# Altium integrated library TI Power Management PCMCIA and USB.IntLib: 328 symbols (part 2 of 14)
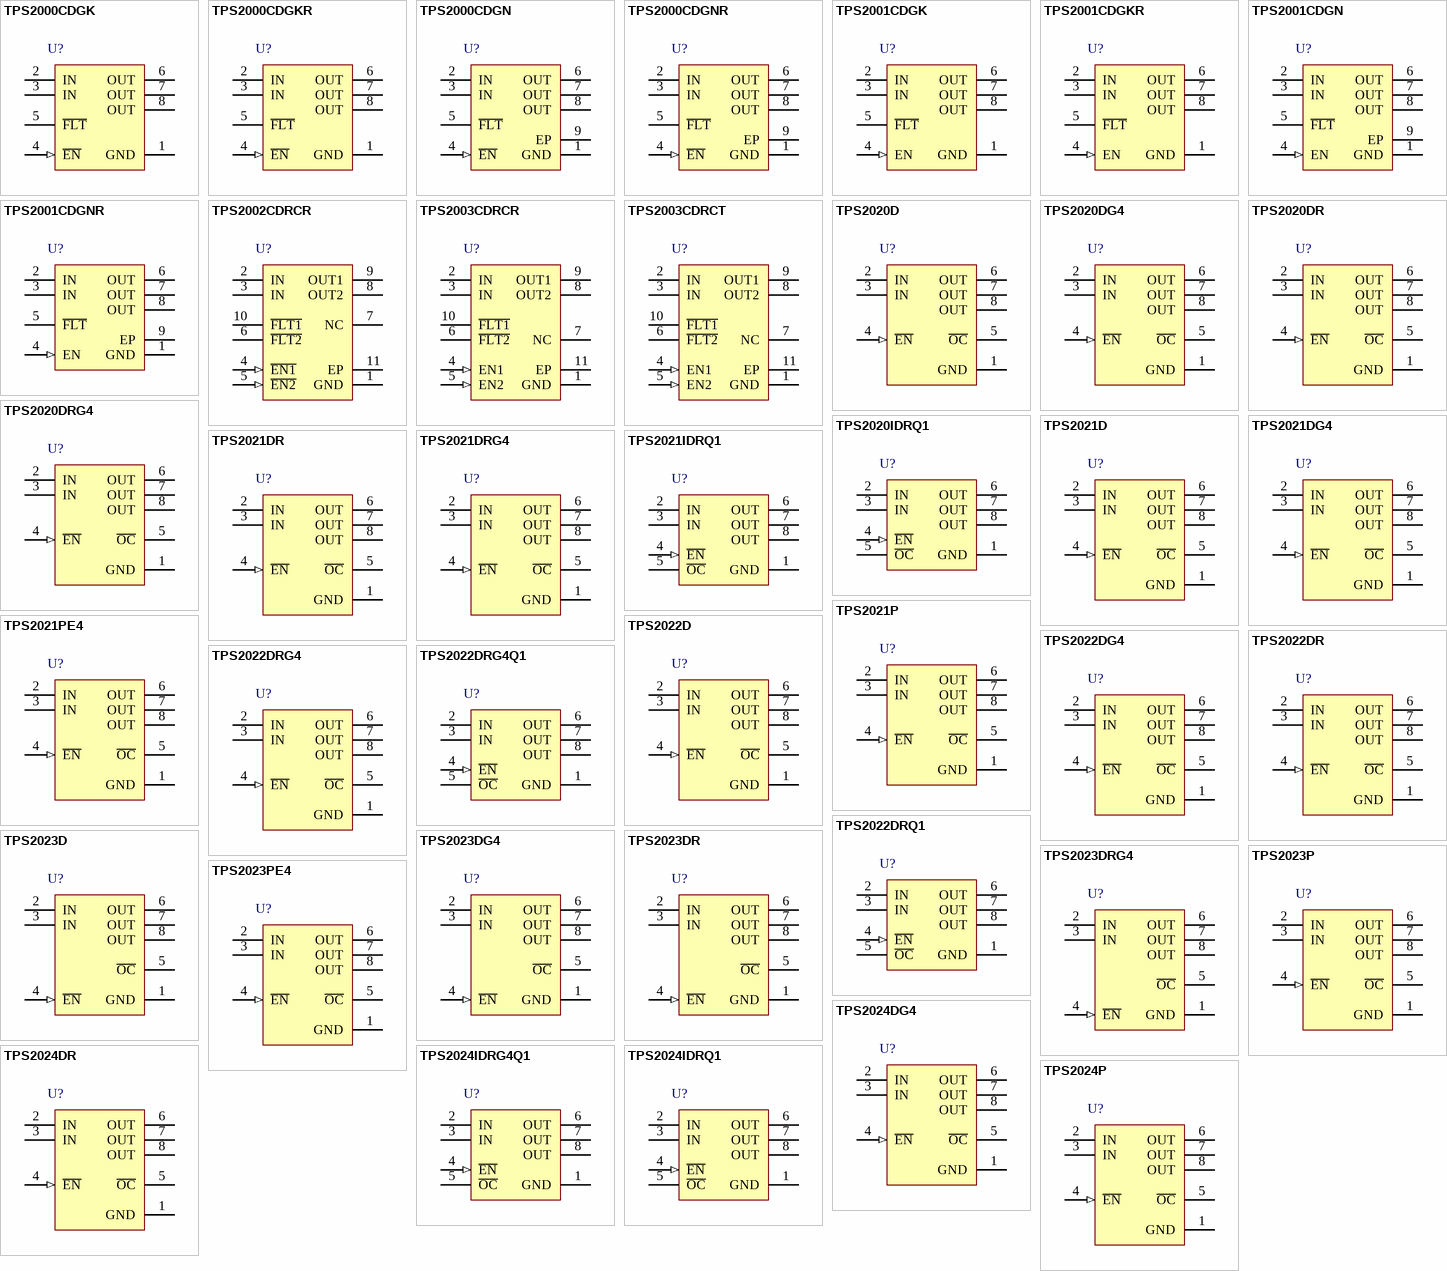
[diagram p11: symbols TPS2000CDGK to TPS2024P]

## TPS2022DRG4Q1
designator U?
Automotive Catalog Power-Distribution Switch, 1.5 A Current Limit, -40 to 85 degC, 8-pin SOIC (D), Green (RoHS & no Sb/Br); Manufacturer: Texas Instruments; PartNumber: TPS2022DRG4Q1; Continuous Current(Max)(A): 1; Current Limit(A): 1.5; Enable: Active Low; rDS(on) per FET(Typ)(mOhms): 33; Vin(Max)(V): 5.5; Vin(Min)(V): 2.7; DatasheetVersion: SGLS260G; PackageVersion: revM, Jun-2011; PackageReference: D8; PackageDescription: 8-Pin Plastic Small Outline Integrated Circuit, 4.9 x 3.9 mm, Pitch 1.27 mm Pitch; Supplier 1: Digi-Key; Supplier Part Number 1: 296-24551-2-ND; Supplier 2: Digi-Key; Supplier Part Number 2: 296-24551-1-ND; Supplier 3: Digi-Key; Supplier Part Number 3: 296-24551-6-ND; Supplier 4: Newark; Supplier Part Number 4: 54M7406; Supplier 5: Mouser; Supplier Part Number 5: 595-TPS2022DRG4Q1; Eco-Plan: Green (RoHS & no Sb/Br); Number of Switches: 1; Rating: Automotive; Mounting Technology: Surface Mount; Code_JEDEC: MS-012AA; ComponentLink1Description: Datasheet; ComponentLink1URL: http://www.ti.com/general/docs/lit/getliterature.tsp?genericPartNumber=TPS2022-Q1&fileType=pdf
footprint D8_N (SOIC, 8-Leads, Body 4.9x3.9mm, Pitch 1.27mm, IPC Medium Density)
footprint D8_L (SOIC, 8-Leads, Body 4.9x3.9mm, Pitch 1.27mm, IPC High Density)
footprint D8_M (SOIC, 8-Leads, Body 4.9x3.9mm, Pitch 1.27mm, IPC Low Density)
pins: 1 GND (power) "Ground", 2 IN (power) "Input voltage", 3 IN (power) "Input voltage", 4 ~{EN} (in) "Enable input. Logic-low turns on power switch", 5 ~{OC} (oc) "Overcurrent. Logic output, active-low", 6 OUT (power) "Power-switch output", 7 OUT (power) "Power-switch output", 8 OUT (power) "Power-switch output"

## TPS2022DRQ1
designator U?
Automotive Catalog Power-Distribution Switch, 1.5 A Current Limit, -40 to 85 degC, 8-pin SOIC (D), Green (RoHS & no Sb/Br); Manufacturer: Texas Instruments; PartNumber: TPS2022DRQ1; Continuous Current(Max)(A): 1; Current Limit(A): 1.5; Enable: Active Low; rDS(on) per FET(Typ)(mOhms): 33; Vin(Max)(V): 5.5; Vin(Min)(V): 2.7; DatasheetVersion: SGLS260G; PackageVersion: revM, Jun-2011; PackageReference: D8; PackageDescription: 8-Pin Plastic Small Outline Integrated Circuit, 4.9 x 3.9 mm, Pitch 1.27 mm Pitch; Supplier 1: Digi-Key; Supplier Part Number 1: TPS2022DRQ1-ND; Supplier 2: Newark; Supplier Part Number 2: 65J6886; Supplier 3: Mouser; Supplier Part Number 3: 595-TPS2022DRQ1; Eco-Plan: Green (RoHS & no Sb/Br); Number of Switches: 1; Rating: Automotive; Mounting Technology: Surface Mount; Code_JEDEC: MS-012AA; ComponentLink1Description: Datasheet; ComponentLink1URL: http://www.ti.com/general/docs/lit/getliterature.tsp?genericPartNumber=TPS2022-Q1&fileType=pdf
footprint D8_N (SOIC, 8-Leads, Body 4.9x3.9mm, Pitch 1.27mm, IPC Medium Density)
footprint D8_L (SOIC, 8-Leads, Body 4.9x3.9mm, Pitch 1.27mm, IPC High Density)
footprint D8_M (SOIC, 8-Leads, Body 4.9x3.9mm, Pitch 1.27mm, IPC Low Density)
pins: 1 GND (power) "Ground", 2 IN (power) "Input voltage", 3 IN (power) "Input voltage", 4 ~{EN} (in) "Enable input. Logic-low turns on power switch", 5 ~{OC} (oc) "Overcurrent. Logic output, active-low", 6 OUT (power) "Power-switch output", 7 OUT (power) "Power-switch output", 8 OUT (power) "Power-switch output"

## TPS2023D
designator U?
1.65 A, 2.7 to 5.5 V Single Power Distribution Switch IC Hi-Side MOSFET, Fault Report, 33 mOhms rDS(On), -40 to 85 degC, 8-pin SOIC (D), Green (RoHS & no Sb/Br); Manufacturer: Texas Instruments; PartNumber: TPS2023D; Continuous Current(Max)(A): 1.5; Current Limit(A): 2.2; Enable: Active Low; Number of Switches: 1; Rating: Catalog; rDS(on) per FET(Typ)(mOhms): 33; Vin(Max)(V): 5.5; Vin(Min)(V): 2.7; DatasheetVersion: SLVS175C; PackageVersion: revM, Jun-2011; PackageReference: D8; PackageDescription: 8-Pin Plastic Small Outline Integrated Circuit, 4.9 x 3.9 mm, Pitch 1.27 mm Pitch; Supplier 1: Digi-Key; Supplier Part Number 1: 296-2563-5-ND; Supplier 2: Newark; Supplier Part Number 2: 35K1304; Supplier 3: Mouser; Supplier Part Number 3: 595-TPS2023D; Eco-Plan: Green (RoHS & no Sb/Br); Mounting Technology: Surface Mount; Code_JEDEC: MS-012AA; ComponentLink1Description: Datasheet; ComponentLink1URL: http://www.ti.com/general/docs/lit/getliterature.tsp?genericPartNumber=TPS2023&fileType=pdf
footprint D8_N (SOIC, 8-Leads, Body 4.9x3.9mm, Pitch 1.27mm, IPC Medium Density)
footprint D8_L (SOIC, 8-Leads, Body 4.9x3.9mm, Pitch 1.27mm, IPC High Density)
footprint D8_M (SOIC, 8-Leads, Body 4.9x3.9mm, Pitch 1.27mm, IPC Low Density)
pins: 1 GND (power) "Ground", 2 IN (power) "Input voltage", 3 IN (power) "Input voltage", 4 ~{EN} (in) "Enable input. Logic-low turns on power switch.", 5 ~{OC} (oc) "Overcurrent. Logic output, active-low", 6 OUT (power) "Power-switch output", 7 OUT (power) "Power-switch output", 8 OUT (power) "Power-switch output"

## TPS2023DG4
designator U?
1.65 A, 2.7 to 5.5 V Single Power Distribution Switch IC Hi-Side MOSFET, Fault Report, 33 mOhms rDS(On), -40 to 85 degC, 8-pin SOIC (D), Green (RoHS & no Sb/Br); Manufacturer: Texas Instruments; PartNumber: TPS2023DG4; Continuous Current(Max)(A): 1.5; Current Limit(A): 2.2; Enable: Active Low; Number of Switches: 1; Rating: Catalog; rDS(on) per FET(Typ)(mOhms): 33; Vin(Max)(V): 5.5; Vin(Min)(V): 2.7; DatasheetVersion: SLVS175C; PackageVersion: revM, Jun-2011; PackageReference: D8; PackageDescription: 8-Pin Plastic Small Outline Integrated Circuit, 4.9 x 3.9 mm, Pitch 1.27 mm Pitch; Supplier 1: Digi-Key; Supplier Part Number 1: TPS2023DG4-ND; Supplier 2: Newark; Supplier Part Number 2: 80K3377; Supplier 3: Mouser; Supplier Part Number 3: 595-TPS2023DG4; Eco-Plan: Green (RoHS & no Sb/Br); Mounting Technology: Surface Mount; Code_JEDEC: MS-012AA; ComponentLink1Description: Datasheet; ComponentLink1URL: http://www.ti.com/general/docs/lit/getliterature.tsp?genericPartNumber=TPS2023&fileType=pdf
footprint D8_N (SOIC, 8-Leads, Body 4.9x3.9mm, Pitch 1.27mm, IPC Medium Density)
footprint D8_L (SOIC, 8-Leads, Body 4.9x3.9mm, Pitch 1.27mm, IPC High Density)
footprint D8_M (SOIC, 8-Leads, Body 4.9x3.9mm, Pitch 1.27mm, IPC Low Density)
pins: 1 GND (power) "Ground", 2 IN (power) "Input voltage", 3 IN (power) "Input voltage", 4 ~{EN} (in) "Enable input. Logic-low turns on power switch.", 5 ~{OC} (oc) "Overcurrent. Logic output, active-low", 6 OUT (power) "Power-switch output", 7 OUT (power) "Power-switch output", 8 OUT (power) "Power-switch output"

## TPS2023DR
designator U?
1.65 A, 2.7 to 5.5 V Single Power Distribution Switch IC Hi-Side MOSFET, Fault Report, 33 mOhms rDS(On), -40 to 85 degC, 8-pin SOIC (D), Green (RoHS & no Sb/Br); Manufacturer: Texas Instruments; PartNumber: TPS2023DR; Continuous Current(Max)(A): 1.5; Current Limit(A): 2.2; Enable: Active Low; Number of Switches: 1; Rating: Catalog; rDS(on) per FET(Typ)(mOhms): 33; Vin(Max)(V): 5.5; Vin(Min)(V): 2.7; DatasheetVersion: SLVS175C; PackageVersion: revM, Jun-2011; PackageReference: D8; PackageDescription: 8-Pin Plastic Small Outline Integrated Circuit, 4.9 x 3.9 mm, Pitch 1.27 mm Pitch; Supplier 1: Digi-Key; Supplier Part Number 1: TPS2023DR-ND; Supplier 2: Newark; Supplier Part Number 2: 76C9962; Supplier 3: Mouser; Supplier Part Number 3: 595-TPS2023DR; Eco-Plan: Green (RoHS & no Sb/Br); Mounting Technology: Surface Mount; Code_JEDEC: MS-012AA; ComponentLink1Description: Datasheet; ComponentLink1URL: http://www.ti.com/general/docs/lit/getliterature.tsp?genericPartNumber=TPS2023&fileType=pdf
footprint D8_N (SOIC, 8-Leads, Body 4.9x3.9mm, Pitch 1.27mm, IPC Medium Density)
footprint D8_L (SOIC, 8-Leads, Body 4.9x3.9mm, Pitch 1.27mm, IPC High Density)
footprint D8_M (SOIC, 8-Leads, Body 4.9x3.9mm, Pitch 1.27mm, IPC Low Density)
pins: 1 GND (power) "Ground", 2 IN (power) "Input voltage", 3 IN (power) "Input voltage", 4 ~{EN} (in) "Enable input. Logic-low turns on power switch.", 5 ~{OC} (oc) "Overcurrent. Logic output, active-low", 6 OUT (power) "Power-switch output", 7 OUT (power) "Power-switch output", 8 OUT (power) "Power-switch output"

## TPS2023DRG4
designator U?
1.65 A, 2.7 to 5.5 V Single Power Distribution Switch IC Hi-Side MOSFET, Fault Report, 33 mOhms rDS(On), -40 to 85 degC, 8-pin SOIC (D), Green (RoHS & no Sb/Br); Manufacturer: Texas Instruments; PartNumber: TPS2023DRG4; Continuous Current(Max)(A): 1.5; Current Limit(A): 2.2; Enable: Active Low; Number of Switches: 1; Rating: Catalog; rDS(on) per FET(Typ)(mOhms): 33; Vin(Max)(V): 5.5; Vin(Min)(V): 2.7; DatasheetVersion: SLVS175C; PackageVersion: revM, Jun-2011; PackageReference: D8; PackageDescription: 8-Pin Plastic Small Outline Integrated Circuit, 4.9 x 3.9 mm, Pitch 1.27 mm Pitch; Supplier 1: Digi-Key; Supplier Part Number 1: TPS2023DRG4-ND; Supplier 2: Newark; Supplier Part Number 2: 80K3378; Supplier 3: Mouser; Supplier Part Number 3: 595-TPS2023DRG4; Eco-Plan: Green (RoHS & no Sb/Br); Mounting Technology: Surface Mount; Code_JEDEC: MS-012AA; ComponentLink1Description: Datasheet; ComponentLink1URL: http://www.ti.com/general/docs/lit/getliterature.tsp?genericPartNumber=TPS2023&fileType=pdf
footprint D8_N (SOIC, 8-Leads, Body 4.9x3.9mm, Pitch 1.27mm, IPC Medium Density)
footprint D8_L (SOIC, 8-Leads, Body 4.9x3.9mm, Pitch 1.27mm, IPC High Density)
footprint D8_M (SOIC, 8-Leads, Body 4.9x3.9mm, Pitch 1.27mm, IPC Low Density)
pins: 1 GND (power) "Ground", 2 IN (power) "Input voltage", 3 IN (power) "Input voltage", 4 ~{EN} (in) "Enable input. Logic-low turns on power switch.", 5 ~{OC} (oc) "Overcurrent. Logic output, active-low", 6 OUT (power) "Power-switch output", 7 OUT (power) "Power-switch output", 8 OUT (power) "Power-switch output"

## TPS2023P
designator U?
1.65 A, 2.7 to 5.5 V Single Power Distribution Switch IC Hi-Side MOSFET, Fault Report, 33 mOhms rDS(On), -40 to 85 degC, 8-pin PDIP (P), Pb-Free (RoHS); Manufacturer: Texas Instruments; PartNumber: TPS2023P; Continuous Current(Max)(A): 1.5; Current Limit(A): 2.2; Enable: Active Low; Number of Switches: 1; Rating: Catalog; rDS(on) per FET(Typ)(mOhms): 33; Vin(Max)(V): 5.5; Vin(Min)(V): 2.7; DatasheetVersion: SLVS175C; PackageVersion: revE, Apr-2010; PackageReference: P8; PackageDescription: 8-Pin Plastic Dual-In-Line Package, Row Spacing 7.62 mm, Pitch 2.54 mm; Supplier 1: Digi-Key; Supplier Part Number 1: 296-12233-5-ND; Supplier 2: Newark; Supplier Part Number 2: 20M5861; Supplier 3: Mouser; Supplier Part Number 3: 595-TPS2023P; Eco-Plan: Pb-Free (RoHS); Mounting Technology: Through Hole; Code_JEDEC: MS-001-BA; ComponentLink1Description: Datasheet; ComponentLink1URL: http://www.ti.com/general/docs/lit/getliterature.tsp?genericPartNumber=TPS2023&fileType=pdf
footprint P8 (DIP, 8-Leads, Row Spacing 7.62mm, Pitch 2.54mm, Body 9.6x6.4mm)
pins: 1 GND (power) "Ground", 2 IN (power) "Input voltage", 3 IN (power) "Input voltage", 4 ~{EN} (in) "Enable input. Logic-low turns on power switch", 5 ~{OC} (oc) "Overcurrent. Logic output, active-low", 6 OUT (power) "Power-switch output", 7 OUT (power) "Power-switch output", 8 OUT (power) "Power-switch output"

## TPS2023PE4
designator U?
1.65 A, 2.7 to 5.5 V Single Power Distribution Switch IC Hi-Side MOSFET, Fault Report, 33 mOhms rDS(On), -40 to 85 degC, 8-pin PDIP (P), Pb-Free (RoHS); Manufacturer: Texas Instruments; PartNumber: TPS2023PE4; Continuous Current(Max)(A): 1.5; Current Limit(A): 2.2; Enable: Active Low; Number of Switches: 1; Rating: Catalog; rDS(on) per FET(Typ)(mOhms): 33; Vin(Max)(V): 5.5; Vin(Min)(V): 2.7; DatasheetVersion: SLVS175C; PackageVersion: revE, Apr-2010; PackageReference: P8; PackageDescription: 8-Pin Plastic Dual-In-Line Package, Row Spacing 7.62 mm, Pitch 2.54 mm; Supplier 1: Digi-Key; Supplier Part Number 1: TPS2023PE4-ND; Supplier 2: Newark; Supplier Part Number 2: 24K5806; Supplier 3: Mouser; Supplier Part Number 3: 595-TPS2023PE4; Eco-Plan: Pb-Free (RoHS); Mounting Technology: Through Hole; Code_JEDEC: MS-001-BA; ComponentLink1Description: Datasheet; ComponentLink1URL: http://www.ti.com/general/docs/lit/getliterature.tsp?genericPartNumber=TPS2023&fileType=pdf
footprint P8 (DIP, 8-Leads, Row Spacing 7.62mm, Pitch 2.54mm, Body 9.6x6.4mm)
pins: 1 GND (power) "Ground", 2 IN (power) "Input voltage", 3 IN (power) "Input voltage", 4 ~{EN} (in) "Enable input. Logic-low turns on power switch", 5 ~{OC} (oc) "Overcurrent. Logic output, active-low", 6 OUT (power) "Power-switch output", 7 OUT (power) "Power-switch output", 8 OUT (power) "Power-switch output"

## TPS2024DG4
designator U?
2.2 A, 2.7 to 5.5 V Single Power Distribution Switch IC Hi-Side MOSFET, Fault Report, 33 mOhms rDS(On), -40 to 85 degC, 8-pin SOIC (D), Green (RoHS & no Sb/Br); Manufacturer: Texas Instruments; PartNumber: TPS2024DG4; Continuous Current(Max)(A): 2; Current Limit(A): 3; Enable: Active Low; Number of Switches: 1; Rating: Catalog; rDS(on) per FET(Typ)(mOhms): 33; Vin(Max)(V): 5.5; Vin(Min)(V): 2.7; DatasheetVersion: SLVS175C; PackageVersion: revM, Jun-2011; PackageReference: D8; PackageDescription: 8-Pin Plastic Small Outline Integrated Circuit, 4.9 x 3.9 mm, Pitch 1.27 mm Pitch; Supplier 1: Digi-Key; Supplier Part Number 1: TPS2024DG4-ND; Supplier 2: Farnell; Supplier Part Number 2: 1235040; Supplier 3: Newark; Supplier Part Number 3: 70K5694; Supplier 4: Mouser; Supplier Part Number 4: 595-TPS2024DG4; Eco-Plan: Green (RoHS & no Sb/Br); Mounting Technology: Surface Mount; Code_JEDEC: MS-012AA; ComponentLink1Description: Datasheet; ComponentLink1URL: http://www.ti.com/general/docs/lit/getliterature.tsp?genericPartNumber=TPS2024&fileType=pdf
footprint D8_N (SOIC, 8-Leads, Body 4.9x3.9mm, Pitch 1.27mm, IPC Medium Density)
footprint D8_L (SOIC, 8-Leads, Body 4.9x3.9mm, Pitch 1.27mm, IPC High Density)
footprint D8_M (SOIC, 8-Leads, Body 4.9x3.9mm, Pitch 1.27mm, IPC Low Density)
pins: 1 GND (power) "Ground", 2 IN (power) "Input voltage", 3 IN (power) "Input voltage", 4 ~{EN} (in) "Enable input. Logic-low turns on power switch.", 5 ~{OC} (oc) "Overcurrent. Logic output, active-low", 6 OUT (power) "Power-switch output", 7 OUT (power) "Power-switch output", 8 OUT (power) "Power-switch output"

## TPS2024DR
designator U?
2.2 A, 2.7 to 5.5 V Single Power Distribution Switch IC Hi-Side MOSFET, Fault Report, 33 mOhms rDS(On), -40 to 85 degC, 8-pin SOIC (D), Green (RoHS & no Sb/Br); Manufacturer: Texas Instruments; PartNumber: TPS2024DR; Continuous Current(Max)(A): 2; Current Limit(A): 3; Enable: Active Low; Number of Switches: 1; Rating: Catalog; rDS(on) per FET(Typ)(mOhms): 33; Vin(Max)(V): 5.5; Vin(Min)(V): 2.7; DatasheetVersion: SLVS175C; PackageVersion: revM, Jun-2011; PackageReference: D8; PackageDescription: 8-Pin Plastic Small Outline Integrated Circuit, 4.9 x 3.9 mm, Pitch 1.27 mm Pitch; Supplier 1: Digi-Key; Supplier Part Number 1: 296-2564-2-ND; Supplier 2: Digi-Key; Supplier Part Number 2: 296-2564-1-ND; Supplier 3: Digi-Key; Supplier Part Number 3: 296-2564-6-ND; Supplier 4: Newark; Supplier Part Number 4: 76C9963; Supplier 5: Mouser; Supplier Part Number 5: 595-TPS2024DR; Eco-Plan: Green (RoHS & no Sb/Br); Mounting Technology: Surface Mount; Code_JEDEC: MS-012AA; ComponentLink1Description: Datasheet; ComponentLink1URL: http://www.ti.com/general/docs/lit/getliterature.tsp?genericPartNumber=TPS2024&fileType=pdf
footprint D8_N (SOIC, 8-Leads, Body 4.9x3.9mm, Pitch 1.27mm, IPC Medium Density)
footprint D8_L (SOIC, 8-Leads, Body 4.9x3.9mm, Pitch 1.27mm, IPC High Density)
footprint D8_M (SOIC, 8-Leads, Body 4.9x3.9mm, Pitch 1.27mm, IPC Low Density)
pins: 1 GND (power) "Ground", 2 IN (power) "Input voltage", 3 IN (power) "Input voltage", 4 ~{EN} (in) "Enable input. Logic-low turns on power switch.", 5 ~{OC} (oc) "Overcurrent. Logic output, active-low", 6 OUT (power) "Power-switch output", 7 OUT (power) "Power-switch output", 8 OUT (power) "Power-switch output"

## TPS2024IDRG4Q1
designator U?
Dual-Channel, Current-Limited, Power-Distribution Switch, 1.72 to 2.86 A Current Limit, -40 to 85 degC, 8-pin SOIC (D), Green (RoHS & no Sb/Br); Manufacturer: Texas Instruments; PartNumber: TPS2024IDRG4Q1; Continuous Current(Max)(A): 1.5; Current Limit Accuracy @ 1A: +/- 25%; Current Limit Topology: Constant-Current; Enable: Active High; Number of Switches: 2; Rating: Catalog; rDS(on) per FET(Typ)(mOhms): 70; Vin(Max)(V): 5.5; Vin(Min)(V): 4.5; DatasheetVersion: SGLS260G; PackageVersion: revM, Jun-2011; PackageReference: D8; PackageDescription: 8-Pin Plastic Small Outline Integrated Circuit, 4.9 x 3.9 mm, Pitch 1.27 mm Pitch; Supplier 1: Digi-Key; Supplier Part Number 1: TPS2024IDRG4Q1-ND; Supplier 2: Newark; Supplier Part Number 2: 54M7407; Supplier 3: Mouser; Supplier Part Number 3: 595-TPS2024IDRG4Q1; Current Limit(A): 1.72 to 2.86; Eco-Plan: Green (RoHS & no Sb/Br); Mounting Technology: Surface Mount; Code_JEDEC: MS-012AA; ComponentLink1Description: Datasheet; ComponentLink1URL: http://www.ti.com/general/docs/lit/getliterature.tsp?genericPartNumber=TPS2024-Q1&fileType=pdf
footprint D8_N (SOIC, 8-Leads, Body 4.9x3.9mm, Pitch 1.27mm, IPC Medium Density)
footprint D8_L (SOIC, 8-Leads, Body 4.9x3.9mm, Pitch 1.27mm, IPC High Density)
footprint D8_M (SOIC, 8-Leads, Body 4.9x3.9mm, Pitch 1.27mm, IPC Low Density)
pins: 1 GND (power) "Ground", 2 IN (power) "Input voltage", 3 IN (power) "Input voltage", 4 ~{EN} (in) "Enable input. Logic-low turns on power switch", 5 ~{OC} (oc) "Overcurrent. Logic output, active-low", 6 OUT (power) "Power-switch output", 7 OUT (power) "Power-switch output", 8 OUT (power) "Power-switch output"

## TPS2024IDRQ1
designator U?
Automotive Catalog Power-Distribution Switch, 3 A Current Limit, -40 to 85 degC, 8-pin SOIC (D), Green (RoHS & no Sb/Br); Manufacturer: Texas Instruments; PartNumber: TPS2024IDRQ1; Continuous Current(Max)(A): 2; Current Limit(A): 3; Enable: Active Low; Number of Switches: 1; rDS(on) per FET(Typ)(mOhms): 33; Vin(Max)(V): 5.5; Vin(Min)(V): 2.7; DatasheetVersion: SGLS260G; PackageVersion: revM, Jun-2011; PackageReference: D8; PackageDescription: 8-Pin Plastic Small Outline Integrated Circuit, 4.9 x 3.9 mm, Pitch 1.27 mm Pitch; Supplier 1: Digi-Key; Supplier Part Number 1: TPS2024IDRQ1-ND; Supplier 2: Newark; Supplier Part Number 2: 73J8376; Supplier 3: Mouser; Supplier Part Number 3: 595-TPS2024IDRQ1; Eco-Plan: Green (RoHS & no Sb/Br); Rating: Automotive; Mounting Technology: Surface Mount; Code_JEDEC: MS-012AA; ComponentLink1Description: Datasheet; ComponentLink1URL: http://www.ti.com/general/docs/lit/getliterature.tsp?genericPartNumber=TPS2024-Q1&fileType=pdf
footprint D8_N (SOIC, 8-Leads, Body 4.9x3.9mm, Pitch 1.27mm, IPC Medium Density)
footprint D8_L (SOIC, 8-Leads, Body 4.9x3.9mm, Pitch 1.27mm, IPC High Density)
footprint D8_M (SOIC, 8-Leads, Body 4.9x3.9mm, Pitch 1.27mm, IPC Low Density)
pins: 1 GND (power) "Ground", 2 IN (power) "Input voltage", 3 IN (power) "Input voltage", 4 ~{EN} (in) "Enable input. Logic-low turns on power switch", 5 ~{OC} (oc) "Overcurrent. Logic output, active-low", 6 OUT (power) "Power-switch output", 7 OUT (power) "Power-switch output", 8 OUT (power) "Power-switch output"

## TPS2024P
designator U?
2.2 A, 2.7 to 5.5 V Single Power Distribution Switch IC Hi-Side MOSFET, Fault Report, 33 mOhms rDS(On), -40 to 85 degC, 8-pin PDIP (P), Pb-Free (RoHS); Manufacturer: Texas Instruments; PartNumber: TPS2024P; Continuous Current(Max)(A): 2; Current Limit(A): 3; Enable: Active Low; Number of Switches: 1; Rating: Catalog; rDS(on) per FET(Typ)(mOhms): 33; Vin(Max)(V): 5.5; Vin(Min)(V): 2.7; DatasheetVersion: SLVS175C; PackageVersion: revE, Apr-2010; PackageReference: P8; PackageDescription: 8-Pin Plastic Dual-In-Line Package, Row Spacing 7.62 mm, Pitch 2.54 mm; Supplier 1: Digi-Key; Supplier Part Number 1: 296-12234-5-ND; Supplier 2: Newark; Supplier Part Number 2: 20M5862; Supplier 3: Mouser; Supplier Part Number 3: 595-TPS2024P; Eco-Plan: Pb-Free (RoHS); Mounting Technology: Through Hole; Code_JEDEC: MS-001-BA; ComponentLink1Description: Datasheet; ComponentLink1URL: http://www.ti.com/general/docs/lit/getliterature.tsp?genericPartNumber=TPS2024&fileType=pdf
footprint P8 (DIP, 8-Leads, Row Spacing 7.62mm, Pitch 2.54mm, Body 9.6x6.4mm)
pins: 1 GND (power) "Ground", 2 IN (power) "Input voltage", 3 IN (power) "Input voltage", 4 ~{EN} (in) "Enable input. Logic-low turns on power switch.", 5 ~{OC} (oc) "Overcurrent. Logic output, active low", 6 OUT (power) "Power-switch output", 7 OUT (power) "Power-switch output", 8 OUT (power) "Power-switch output"

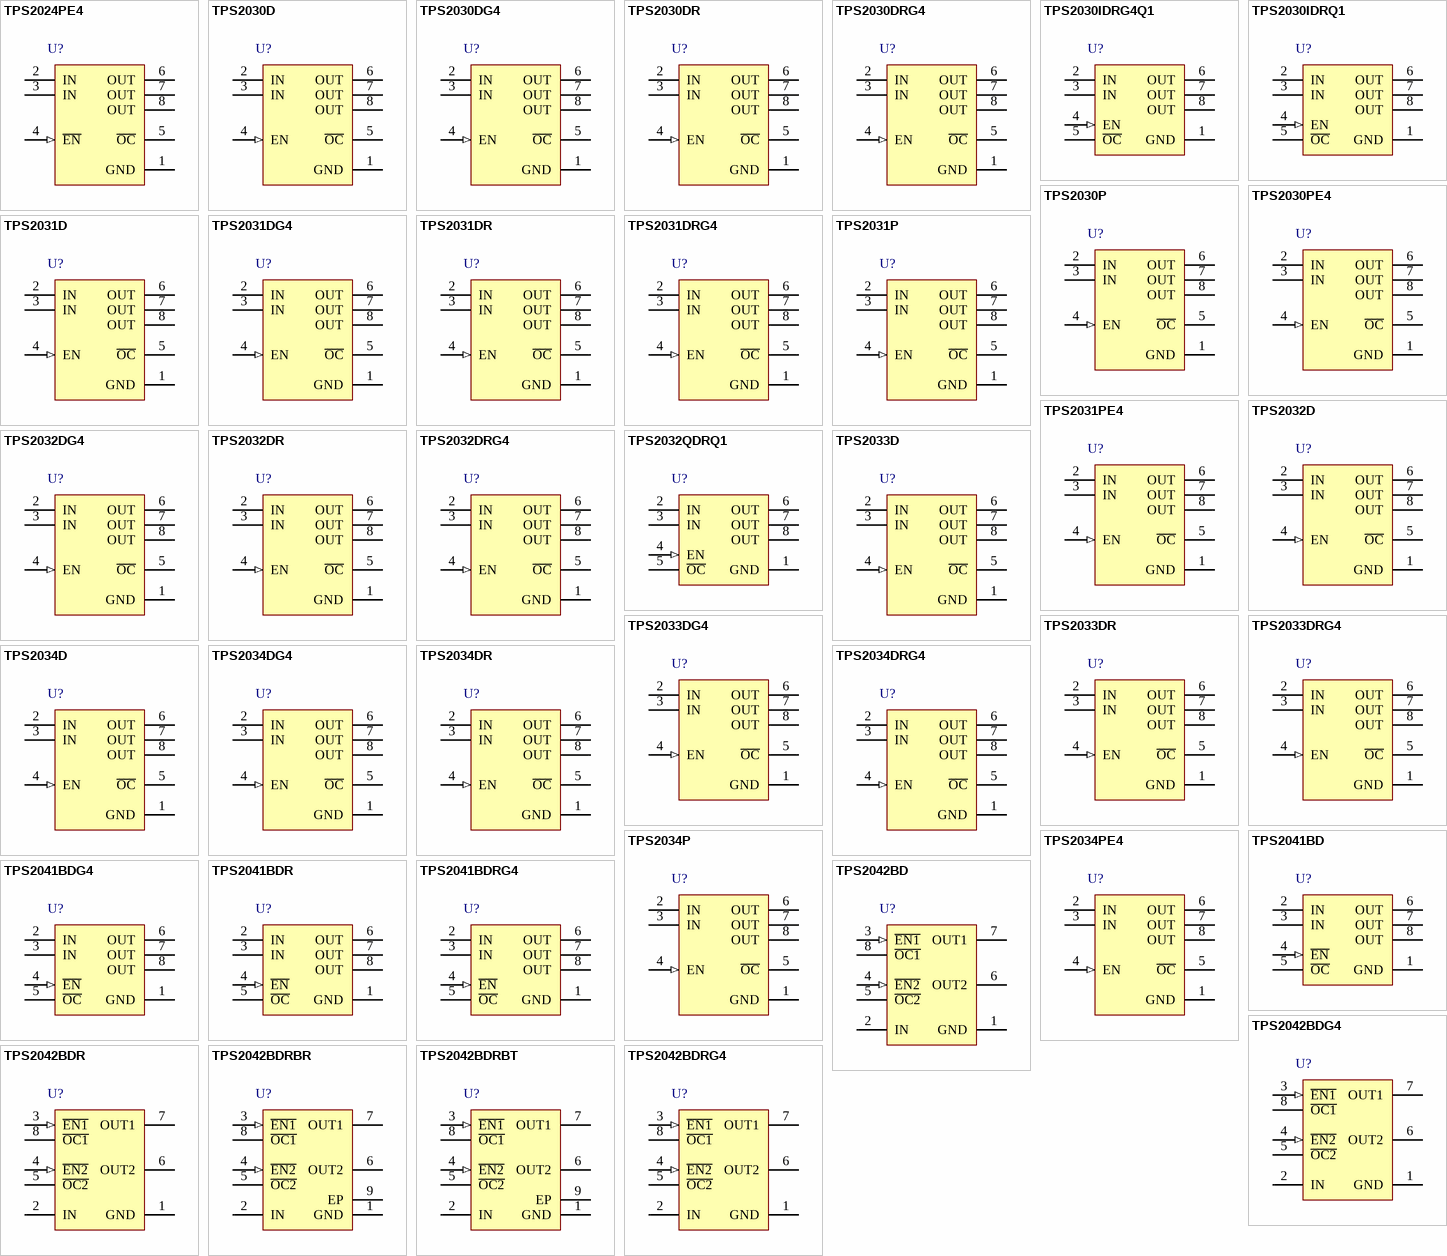
[diagram p1: symbols TPS2024PE4 to TPS2042BDRG4]

## TPS2024PE4
designator U?
2.2 A, 2.7 to 5.5 V Single Power Distribution Switch IC Hi-Side MOSFET, Fault Report, 33 mOhms rDS(On), -40 to 85 degC, 8-pin PDIP (P), Pb-Free (RoHS); Manufacturer: Texas Instruments; PartNumber: TPS2024PE4; Continuous Current(Max)(A): 2; Current Limit(A): 3; Enable: Active Low; Number of Switches: 1; Rating: Catalog; rDS(on) per FET(Typ)(mOhms): 33; Vin(Max)(V): 5.5; Vin(Min)(V): 2.7; DatasheetVersion: SLVS175C; PackageVersion: revE, Apr-2010; PackageReference: P8; PackageDescription: 8-Pin Plastic Dual-In-Line Package, Row Spacing 7.62 mm, Pitch 2.54 mm; Supplier 1: Digi-Key; Supplier Part Number 1: TPS2024PE4-ND; Supplier 2: Newark; Supplier Part Number 2: 24K5808; Supplier 3: Mouser; Supplier Part Number 3: 595-TPS2024PE4; Eco-Plan: Pb-Free (RoHS); Mounting Technology: Through Hole; Code_JEDEC: MS-001-BA; ComponentLink1Description: Datasheet; ComponentLink1URL: http://www.ti.com/general/docs/lit/getliterature.tsp?genericPartNumber=TPS2024&fileType=pdf
footprint P8 (DIP, 8-Leads, Row Spacing 7.62mm, Pitch 2.54mm, Body 9.6x6.4mm)
pins: 1 GND (power) "Ground", 2 IN (power) "Input voltage", 3 IN (power) "Input voltage", 4 ~{EN} (in) "Enable input. Logic-low turns on power switch.", 5 ~{OC} (oc) "Overcurrent. Logic output, active low", 6 OUT (power) "Power-switch output", 7 OUT (power) "Power-switch output", 8 OUT (power) "Power-switch output"

## TPS2030D
designator U?
0.22 A, 2.7 to 5.5 V Single Hot-Swap IC Hi-Side MOSFET, Fault Report, 33 mOhms rDS(on), -40 to 85 degC, 8-pin SOIC (D), Green (RoHS & no Sb/Br); Manufacturer: Texas Instruments; PartNumber: TPS2030D; Continuous Current(Max)(A): 0.2; Current Limit(A): 0.3; Enable: Active High; Number of Switches: 1; Rating: Catalog; rDS(on) per FET(Typ)(mOhms): 33; Vin(Max)(V): 5.5; Vin(Min)(V): 2.7; DatasheetVersion: SLVS190C; PackageVersion: revM, Jun-2011; PackageReference: D8; PackageDescription: 8-Pin Plastic Small Outline Integrated Circuit, 4.9 x 3.9 mm, Pitch 1.27 mm Pitch; Supplier 1: Digi-Key; Supplier Part Number 1: 296-2565-5-ND; Supplier 2: Newark; Supplier Part Number 2: 96B3632; Supplier 3: Mouser; Supplier Part Number 3: 595-TPS2030D; Eco-Plan: Green (RoHS & no Sb/Br); Mounting Technology: Surface Mount; Code_JEDEC: MS-012AA; ComponentLink1Description: Datasheet; ComponentLink1URL: http://www.ti.com/general/docs/lit/getliterature.tsp?genericPartNumber=TPS2030&fileType=pdf
footprint D8_N (SOIC, 8-Leads, Body 4.9x3.9mm, Pitch 1.27mm, IPC Medium Density)
footprint D8_L (SOIC, 8-Leads, Body 4.9x3.9mm, Pitch 1.27mm, IPC High Density)
footprint D8_M (SOIC, 8-Leads, Body 4.9x3.9mm, Pitch 1.27mm, IPC Low Density)
pins: 1 GND (power) "Ground", 2 IN (power) "Input voltage", 3 IN (power) "Input voltage", 4 EN (in) "Enable input. Logic high turns on power switch.", 5 ~{OC} (oc) "Overcurrent. Logic output active low", 6 OUT (power) "Power-switch output", 7 OUT (power) "Power-switch output", 8 OUT (power) "Power-switch output"

## TPS2030DG4
designator U?
0.22 A, 2.7 to 5.5 V Single Hot-Swap IC Hi-Side MOSFET, Fault Report, 33 mOhms rDS(on), -40 to 85 degC, 8-pin SOIC (D), Green (RoHS & no Sb/Br); Manufacturer: Texas Instruments; PartNumber: TPS2030DG4; Continuous Current(Max)(A): 0.2; Current Limit(A): 0.3; Enable: Active High; Number of Switches: 1; Rating: Catalog; rDS(on) per FET(Typ)(mOhms): 33; Vin(Max)(V): 5.5; Vin(Min)(V): 2.7; DatasheetVersion: SLVS190C; PackageVersion: revM, Jun-2011; PackageReference: D8; PackageDescription: 8-Pin Plastic Small Outline Integrated Circuit, 4.9 x 3.9 mm, Pitch 1.27 mm Pitch; Supplier 1: Digi-Key; Supplier Part Number 1: TPS2030DG4-ND; Supplier 2: Newark; Supplier Part Number 2: 58K6890; Supplier 3: Mouser; Supplier Part Number 3: 595-TPS2030DG4; Eco-Plan: Green (RoHS & no Sb/Br); Mounting Technology: Surface Mount; Code_JEDEC: MS-012AA; ComponentLink1Description: Datasheet; ComponentLink1URL: http://www.ti.com/general/docs/lit/getliterature.tsp?genericPartNumber=TPS2030&fileType=pdf
footprint D8_N (SOIC, 8-Leads, Body 4.9x3.9mm, Pitch 1.27mm, IPC Medium Density)
footprint D8_L (SOIC, 8-Leads, Body 4.9x3.9mm, Pitch 1.27mm, IPC High Density)
footprint D8_M (SOIC, 8-Leads, Body 4.9x3.9mm, Pitch 1.27mm, IPC Low Density)
pins: 1 GND (power) "Ground", 2 IN (power) "Input voltage", 3 IN (power) "Input voltage", 4 EN (in) "Enable input. Logic high turns on power switch.", 5 ~{OC} (oc) "Overcurrent. Logic output active low", 6 OUT (power) "Power-switch output", 7 OUT (power) "Power-switch output", 8 OUT (power) "Power-switch output"

## TPS2030DR
designator U?
0.22 A, 2.7 to 5.5 V Single Hot-Swap IC Hi-Side MOSFET, Fault Report, 33 mOhms rDS(on), -40 to 85 degC, 8-pin SOIC (D), Green (RoHS & no Sb/Br); Manufacturer: Texas Instruments; PartNumber: TPS2030DR; Continuous Current(Max)(A): 0.2; Current Limit(A): 0.3; Enable: Active High; Number of Switches: 1; Rating: Catalog; rDS(on) per FET(Typ)(mOhms): 33; Vin(Max)(V): 5.5; Vin(Min)(V): 2.7; DatasheetVersion: SLVS190C; PackageVersion: revM, Jun-2011; PackageReference: D8; PackageDescription: 8-Pin Plastic Small Outline Integrated Circuit, 4.9 x 3.9 mm, Pitch 1.27 mm Pitch; Supplier 1: Digi-Key; Supplier Part Number 1: TPS2030DR-ND; Supplier 2: Newark; Supplier Part Number 2: 76C9964; Supplier 3: Mouser; Supplier Part Number 3: 595-TPS2030DR; Eco-Plan: Green (RoHS & no Sb/Br); Mounting Technology: Surface Mount; Code_JEDEC: MS-012AA; ComponentLink1Description: Datasheet; ComponentLink1URL: http://www.ti.com/general/docs/lit/getliterature.tsp?genericPartNumber=TPS2030&fileType=pdf
footprint D8_N (SOIC, 8-Leads, Body 4.9x3.9mm, Pitch 1.27mm, IPC Medium Density)
footprint D8_L (SOIC, 8-Leads, Body 4.9x3.9mm, Pitch 1.27mm, IPC High Density)
footprint D8_M (SOIC, 8-Leads, Body 4.9x3.9mm, Pitch 1.27mm, IPC Low Density)
pins: 1 GND (power) "Ground", 2 IN (power) "Input voltage", 3 IN (power) "Input voltage", 4 EN (in) "Enable input. Logic high turns on power switch.", 5 ~{OC} (oc) "Overcurrent. Logic output active low", 6 OUT (power) "Power-switch output", 7 OUT (power) "Power-switch output", 8 OUT (power) "Power-switch output"

## TPS2030DRG4
designator U?
0.22 A, 2.7 to 5.5 V Single Hot-Swap IC Hi-Side MOSFET, Fault Report, 33 mOhms rDS(on), -40 to 85 degC, 8-pin SOIC (D), Green (RoHS & no Sb/Br); Manufacturer: Texas Instruments; PartNumber: TPS2030DRG4; Continuous Current(Max)(A): 0.2; Current Limit(A): 0.3; Enable: Active High; Number of Switches: 1; Rating: Catalog; rDS(on) per FET(Typ)(mOhms): 33; Vin(Max)(V): 5.5; Vin(Min)(V): 2.7; DatasheetVersion: SLVS190C; PackageVersion: revM, Jun-2011; PackageReference: D8; PackageDescription: 8-Pin Plastic Small Outline Integrated Circuit, 4.9 x 3.9 mm, Pitch 1.27 mm Pitch; Supplier 1: Digi-Key; Supplier Part Number 1: TPS2030DRG4-ND; Supplier 2: Newark; Supplier Part Number 2: 61K1865; Supplier 3: Mouser; Supplier Part Number 3: 595-TPS2030DRG4; Eco-Plan: Green (RoHS & no Sb/Br); Mounting Technology: Surface Mount; Code_JEDEC: MS-012AA; ComponentLink1Description: Datasheet; ComponentLink1URL: http://www.ti.com/general/docs/lit/getliterature.tsp?genericPartNumber=TPS2030&fileType=pdf
footprint D8_N (SOIC, 8-Leads, Body 4.9x3.9mm, Pitch 1.27mm, IPC Medium Density)
footprint D8_L (SOIC, 8-Leads, Body 4.9x3.9mm, Pitch 1.27mm, IPC High Density)
footprint D8_M (SOIC, 8-Leads, Body 4.9x3.9mm, Pitch 1.27mm, IPC Low Density)
pins: 1 GND (power) "Ground", 2 IN (power) "Input voltage", 3 IN (power) "Input voltage", 4 EN (in) "Enable input. Logic high turns on power switch.", 5 ~{OC} (oc) "Overcurrent. Logic output active low", 6 OUT (power) "Power-switch output", 7 OUT (power) "Power-switch output", 8 OUT (power) "Power-switch output"

## TPS2030IDRG4Q1
designator U?
Automotive Catalog Power-Distribution Switch, 0.3 A Current Limit, -40 to 85 degC, 8-pin SOIC (D), Green (RoHS & no Sb/Br); Manufacturer: Texas Instruments; PartNumber: TPS2030IDRG4Q1; Continuous Current(Max)(A): 0.2; Current Limit(A): 0.3; Enable: Active High; Number of Switches: 1; rDS(on) per FET(Typ)(mOhms): 33; Vin(Max)(V): 5.5; Vin(Min)(V): 2.7; DatasheetVersion: SGLS298B; PackageVersion: revM, Jun-2011; PackageReference: D8; PackageDescription: 8-Pin Plastic Small Outline Integrated Circuit, 4.9 x 3.9 mm, Pitch 1.27 mm Pitch; Supplier 1: Digi-Key; Supplier Part Number 1: 296-24435-2-ND; Supplier 2: Digi-Key; Supplier Part Number 2: 296-24435-1-ND; Supplier 3: Digi-Key; Supplier Part Number 3: 296-24435-6-ND; Supplier 4: Mouser; Supplier Part Number 4: 595-TPS2030IDRG4Q1; Eco-Plan: Green (RoHS & no Sb/Br); Rating: Automotive; Mounting Technology: Surface Mount; Code_JEDEC: MS-012AA; ComponentLink1Description: Datasheet; ComponentLink1URL: http://www.ti.com/general/docs/lit/getliterature.tsp?genericPartNumber=TPS2030-Q1&fileType=pdf
footprint D8_N (SOIC, 8-Leads, Body 4.9x3.9mm, Pitch 1.27mm, IPC Medium Density)
footprint D8_L (SOIC, 8-Leads, Body 4.9x3.9mm, Pitch 1.27mm, IPC High Density)
footprint D8_M (SOIC, 8-Leads, Body 4.9x3.9mm, Pitch 1.27mm, IPC Low Density)
pins: 1 GND (power) "Ground", 2 IN (power) "Input voltage", 3 IN (power) "Input voltage", 4 EN (in) "Enable input. Logic high turns on power switch.", 5 ~{OC} (oc) "Overcurrent. Logic output active low", 6 OUT (power) "Power-switch output", 7 OUT (power) "Power-switch output", 8 OUT (power) "Power-switch output"

## TPS2030IDRQ1
designator U?
Automotive Catalog Power-Distribution Switch, 0.3 A Current Limit, -40 to 85 degC, 8-pin SOIC (D), Green (RoHS & no Sb/Br); Manufacturer: Texas Instruments; PartNumber: TPS2030IDRQ1; Continuous Current(Max)(A): 0.2; Current Limit(A): 0.3; Enable: Active High; Number of Switches: 1; rDS(on) per FET(Typ)(mOhms): 33; Vin(Max)(V): 5.5; Vin(Min)(V): 2.7; DatasheetVersion: SGLS298B; PackageVersion: revM, Jun-2011; PackageReference: D8; PackageDescription: 8-Pin Plastic Small Outline Integrated Circuit, 4.9 x 3.9 mm, Pitch 1.27 mm Pitch; Supplier 1: Digi-Key; Supplier Part Number 1: 296-18668-2-ND; Supplier 2: Digi-Key; Supplier Part Number 2: 296-18668-1-ND; Supplier 3: Digi-Key; Supplier Part Number 3: 296-18668-6-ND; Supplier 4: Newark; Supplier Part Number 4: 73J8377; Supplier 5: Mouser; Supplier Part Number 5: 595-TPS2030IDRQ1; Eco-Plan: Green (RoHS & no Sb/Br); Rating: Automotive; Mounting Technology: Surface Mount; Code_JEDEC: MS-012AA; ComponentLink1Description: Datasheet; ComponentLink1URL: http://www.ti.com/general/docs/lit/getliterature.tsp?genericPartNumber=TPS2030-Q1&fileType=pdf
footprint D8_N (SOIC, 8-Leads, Body 4.9x3.9mm, Pitch 1.27mm, IPC Medium Density)
footprint D8_L (SOIC, 8-Leads, Body 4.9x3.9mm, Pitch 1.27mm, IPC High Density)
footprint D8_M (SOIC, 8-Leads, Body 4.9x3.9mm, Pitch 1.27mm, IPC Low Density)
pins: 1 GND (power) "Ground", 2 IN (power) "Input voltage", 3 IN (power) "Input voltage", 4 EN (in) "Enable input. Logic high turns on power switch.", 5 ~{OC} (oc) "Overcurrent. Logic output active low", 6 OUT (power) "Power-switch output", 7 OUT (power) "Power-switch output", 8 OUT (power) "Power-switch output"

## TPS2030P
designator U?
0.22 A, 2.7 to 5.5 V Single Hot-Swap IC Hi-Side MOSFET, Fault Report, 33 mOhms rDS(On), -40 to 85 degC, 8-pin PDIP (P), Pb-Free (RoHS); Manufacturer: Texas Instruments; PartNumber: TPS2030P; Continuous Current(Max)(A): 0.2; Current Limit(A): 0.3; Enable: Active High; Number of Switches: 1; Rating: Catalog; rDS(on) per FET(Typ)(mOhms): 33; Vin(Max)(V): 5.5; Vin(Min)(V): 2.7; DatasheetVersion: SLVS190C; PackageVersion: revE, Apr-2010; PackageReference: P8; PackageDescription: 8-Pin Plastic Dual-In-Line Package, Row Spacing 7.62 mm, Pitch 2.54 mm; Supplier 1: Digi-Key; Supplier Part Number 1: 296-3392-5-ND; Supplier 2: Newark; Supplier Part Number 2: 93B6439; Supplier 3: Mouser; Supplier Part Number 3: 595-TPS2030P; Eco-Plan: Pb-Free (RoHS); Mounting Technology: Through Hole; Code_JEDEC: MS-001-BA; ComponentLink1Description: Datasheet; ComponentLink1URL: http://www.ti.com/general/docs/lit/getliterature.tsp?genericPartNumber=TPS2030&fileType=pdf
footprint P8 (DIP, 8-Leads, Row Spacing 7.62mm, Pitch 2.54mm, Body 9.6x6.4mm)
pins: 1 GND (power) "Ground", 2 IN (power) "Input voltage", 3 IN (power) "Input voltage", 4 EN (in) "Enable input. Logic high turns on power switch.", 5 ~{OC} (oc) "Overcurrent. Logic output active low", 6 OUT (power) "Power-switch output", 7 OUT (power) "Power-switch output", 8 OUT (power) "Power-switch output"

## TPS2030PE4
designator U?
0.22 A, 2.7 to 5.5 V Single Hot-Swap IC Hi-Side MOSFET, Fault Report, 33 mOhms rDS(On), -40 to 85 degC, 8-pin PDIP (P), Pb-Free (RoHS); Manufacturer: Texas Instruments; PartNumber: TPS2030PE4; Continuous Current(Max)(A): 0.2; Current Limit(A): 0.3; Enable: Active High; Number of Switches: 1; Rating: Catalog; rDS(on) per FET(Typ)(mOhms): 33; Vin(Max)(V): 5.5; Vin(Min)(V): 2.7; DatasheetVersion: SLVS190C; PackageVersion: revE, Apr-2010; PackageReference: P8; PackageDescription: 8-Pin Plastic Dual-In-Line Package, Row Spacing 7.62 mm, Pitch 2.54 mm; Supplier 1: Digi-Key; Supplier Part Number 1: TPS2030PE4-ND; Supplier 2: Newark; Supplier Part Number 2: 24K5809; Supplier 3: Mouser; Supplier Part Number 3: 595-TPS2030PE4; Eco-Plan: Pb-Free (RoHS); Mounting Technology: Through Hole; Code_JEDEC: MS-001-BA; ComponentLink1Description: Datasheet; ComponentLink1URL: http://www.ti.com/general/docs/lit/getliterature.tsp?genericPartNumber=TPS2030&fileType=pdf
footprint P8 (DIP, 8-Leads, Row Spacing 7.62mm, Pitch 2.54mm, Body 9.6x6.4mm)
pins: 1 GND (power) "Ground", 2 IN (power) "Input voltage", 3 IN (power) "Input voltage", 4 EN (in) "Enable input. Logic high turns on power switch.", 5 ~{OC} (oc) "Overcurrent. Logic output active low", 6 OUT (power) "Power-switch output", 7 OUT (power) "Power-switch output", 8 OUT (power) "Power-switch output"

## TPS2031D
designator U?
0.66 A, 2.7 to 5.5 V Single Hot-Swap IC Hi-Side MOSFET, Fault Report, 33 mOhms rDS(On), -40 to 85 degC, 8-pin SOIC (D), Green (RoHS & no Sb/Br); Manufacturer: Texas Instruments; PartNumber: TPS2031D; Continuous Current(Max)(A): 0.6; Current Limit(A): 0.9; Enable: Active High; Number of Switches: 1; Rating: Catalog; rDS(on) per FET(Typ)(mOhms): 33; Vin(Max)(V): 5.5; Vin(Min)(V): 2.7; DatasheetVersion: SLVS190C; PackageVersion: revM, Jun-2011; PackageReference: D8; PackageDescription: 8-Pin Plastic Small Outline Integrated Circuit, 4.9 x 3.9 mm, Pitch 1.27 mm Pitch; Supplier 1: Digi-Key; Supplier Part Number 1: 296-2566-5-ND; Supplier 2: Newark; Supplier Part Number 2: 96B3633; Supplier 3: Mouser; Supplier Part Number 3: 595-TPS2031D; Eco-Plan: Green (RoHS & no Sb/Br); Mounting Technology: Surface Mount; Code_JEDEC: MS-012AA; ComponentLink1Description: Datasheet; ComponentLink1URL: http://www.ti.com/general/docs/lit/getliterature.tsp?genericPartNumber=TPS2031&fileType=pdf
footprint D8_N (SOIC, 8-Leads, Body 4.9x3.9mm, Pitch 1.27mm, IPC Medium Density)
footprint D8_L (SOIC, 8-Leads, Body 4.9x3.9mm, Pitch 1.27mm, IPC High Density)
footprint D8_M (SOIC, 8-Leads, Body 4.9x3.9mm, Pitch 1.27mm, IPC Low Density)
pins: 1 GND (power) "Ground", 2 IN (power) "Input voltage", 3 IN (power) "Input voltage", 4 EN (in) "Enable input. Logic high turns on power switch", 5 ~{OC} (oc) "Overcurrent. Logic output active low", 6 OUT (power) "Power-switch output", 7 OUT (power) "Power-switch output", 8 OUT (power) "Power-switch output"

## TPS2031DG4
designator U?
0.66 A, 2.7 to 5.5 V Single Hot-Swap IC Hi-Side MOSFET, Fault Report, 33 mOhms rDS(On), -40 to 85 degC, 8-pin SOIC (D), Green (RoHS & no Sb/Br); Manufacturer: Texas Instruments; PartNumber: TPS2031DG4; Continuous Current(Max)(A): 0.6; Current Limit(A): 0.9; Enable: Active High; Number of Switches: 1; Rating: Catalog; rDS(on) per FET(Typ)(mOhms): 33; Vin(Max)(V): 5.5; Vin(Min)(V): 2.7; DatasheetVersion: SLVS190C; PackageVersion: revM, Jun-2011; PackageReference: D8; PackageDescription: 8-Pin Plastic Small Outline Integrated Circuit, 4.9 x 3.9 mm, Pitch 1.27 mm Pitch; Supplier 1: Digi-Key; Supplier Part Number 1: TPS2031DG4-ND; Supplier 2: Newark; Supplier Part Number 2: 61K1866; Supplier 3: Mouser; Supplier Part Number 3: 595-TPS2031DG4; Eco-Plan: Green (RoHS & no Sb/Br); Mounting Technology: Surface Mount; Code_JEDEC: MS-012AA; ComponentLink1Description: Datasheet; ComponentLink1URL: http://www.ti.com/general/docs/lit/getliterature.tsp?genericPartNumber=TPS2031&fileType=pdf
footprint D8_N (SOIC, 8-Leads, Body 4.9x3.9mm, Pitch 1.27mm, IPC Medium Density)
footprint D8_L (SOIC, 8-Leads, Body 4.9x3.9mm, Pitch 1.27mm, IPC High Density)
footprint D8_M (SOIC, 8-Leads, Body 4.9x3.9mm, Pitch 1.27mm, IPC Low Density)
pins: 1 GND (power) "Ground", 2 IN (power) "Input voltage", 3 IN (power) "Input voltage", 4 EN (in) "Enable input. Logic high turns on power switch", 5 ~{OC} (oc) "Overcurrent. Logic output active low", 6 OUT (power) "Power-switch output", 7 OUT (power) "Power-switch output", 8 OUT (power) "Power-switch output"

## TPS2031DR
designator U?
0.66 A, 2.7 to 5.5 V Single Hot-Swap IC Hi-Side MOSFET, Fault Report, 33 mOhms rDS(On), -40 to 85 degC, 8-pin SOIC (D), Green (RoHS & no Sb/Br); Manufacturer: Texas Instruments; PartNumber: TPS2031DR; Continuous Current(Max)(A): 0.6; Current Limit(A): 0.9; Enable: Active High; Number of Switches: 1; Rating: Catalog; rDS(on) per FET(Typ)(mOhms): 33; Vin(Max)(V): 5.5; Vin(Min)(V): 2.7; DatasheetVersion: SLVS190C; PackageVersion: revM, Jun-2011; PackageReference: D8; PackageDescription: 8-Pin Plastic Small Outline Integrated Circuit, 4.9 x 3.9 mm, Pitch 1.27 mm Pitch; Supplier 1: Digi-Key; Supplier Part Number 1: 296-26904-2-ND; Supplier 2: Digi-Key; Supplier Part Number 2: 296-26904-1-ND; Supplier 3: Digi-Key; Supplier Part Number 3: 296-26904-6-ND; Supplier 4: Newark; Supplier Part Number 4: 76C9965; Supplier 5: Mouser; Supplier Part Number 5: 595-TPS2031DR; Eco-Plan: Green (RoHS & no Sb/Br); Mounting Technology: Surface Mount; Code_JEDEC: MS-012AA; ComponentLink1Description: Datasheet; ComponentLink1URL: http://www.ti.com/general/docs/lit/getliterature.tsp?genericPartNumber=TPS2031&fileType=pdf
footprint D8_N (SOIC, 8-Leads, Body 4.9x3.9mm, Pitch 1.27mm, IPC Medium Density)
footprint D8_L (SOIC, 8-Leads, Body 4.9x3.9mm, Pitch 1.27mm, IPC High Density)
footprint D8_M (SOIC, 8-Leads, Body 4.9x3.9mm, Pitch 1.27mm, IPC Low Density)
pins: 1 GND (power) "Ground", 2 IN (power) "Input voltage", 3 IN (power) "Input voltage", 4 EN (in) "Enable input. Logic high turns on power switch", 5 ~{OC} (oc) "Overcurrent. Logic output active low", 6 OUT (power) "Power-switch output", 7 OUT (power) "Power-switch output", 8 OUT (power) "Power-switch output"

## TPS2031DRG4
designator U?
0.66 A, 2.7 to 5.5 V Single Hot-Swap IC Hi-Side MOSFET, Fault Report, 33 mOhms rDS(On), -40 to 85 degC, 8-pin SOIC (D), Green (RoHS & no Sb/Br); Manufacturer: Texas Instruments; PartNumber: TPS2031DRG4; Continuous Current(Max)(A): 0.6; Current Limit(A): 0.9; Enable: Active High; Number of Switches: 1; Rating: Catalog; rDS(on) per FET(Typ)(mOhms): 33; Vin(Max)(V): 5.5; Vin(Min)(V): 2.7; DatasheetVersion: SLVS190C; PackageVersion: revM, Jun-2011; PackageReference: D8; PackageDescription: 8-Pin Plastic Small Outline Integrated Circuit, 4.9 x 3.9 mm, Pitch 1.27 mm Pitch; Supplier 1: Digi-Key; Supplier Part Number 1: TPS2031DRG4-ND; Supplier 2: Newark; Supplier Part Number 2: 58K6891; Supplier 3: Mouser; Supplier Part Number 3: 595-TPS2031DRG4; Eco-Plan: Green (RoHS & no Sb/Br); Mounting Technology: Surface Mount; Code_JEDEC: MS-012AA; ComponentLink1Description: Datasheet; ComponentLink1URL: http://www.ti.com/general/docs/lit/getliterature.tsp?genericPartNumber=TPS2031&fileType=pdf
footprint D8_N (SOIC, 8-Leads, Body 4.9x3.9mm, Pitch 1.27mm, IPC Medium Density)
footprint D8_L (SOIC, 8-Leads, Body 4.9x3.9mm, Pitch 1.27mm, IPC High Density)
footprint D8_M (SOIC, 8-Leads, Body 4.9x3.9mm, Pitch 1.27mm, IPC Low Density)
pins: 1 GND (power) "Ground", 2 IN (power) "Input voltage", 3 IN (power) "Input voltage", 4 EN (in) "Enable input. Logic high turns on power switch", 5 ~{OC} (oc) "Overcurrent. Logic output active low", 6 OUT (power) "Power-switch output", 7 OUT (power) "Power-switch output", 8 OUT (power) "Power-switch output"

## TPS2031P
designator U?
0.66 A, 2.7 to 5.5 V Single Hot-Swap IC Hi-Side MOSFET, Fault Report, Act-High Enable, 33 mOhms rDS(On), -40 to 85 degC, 8-pin PDIP (P), Pb-Free (RoHS); Manufacturer: Texas Instruments; PartNumber: TPS2031P; Continuous Current(Max)(A): 0.6; Current Limit(A): 0.9; Enable: Active High; Number of Switches: 1; Rating: Catalog; rDS(on) per FET(Typ)(mOhms): 33; Vin(Max)(V): 5.5; Vin(Min)(V): 2.7; DatasheetVersion: SLVS190C; PackageVersion: revE, Apr-2010; PackageReference: P8; PackageDescription: 8-Pin Plastic Dual-In-Line Package, Row Spacing 7.62 mm, Pitch 2.54 mm; Supplier 1: Digi-Key; Supplier Part Number 1: 296-34583-5-ND; Supplier 2: Newark; Supplier Part Number 2: 93B6447; Supplier 3: Mouser; Supplier Part Number 3: 595-TPS2031P; Eco-Plan: Pb-Free (RoHS); Mounting Technology: Through Hole; Code_JEDEC: MS-001-BA; ComponentLink1Description: Datasheet; ComponentLink1URL: http://www.ti.com/general/docs/lit/getliterature.tsp?genericPartNumber=TPS2031&fileType=pdf
footprint P8 (DIP, 8-Leads, Row Spacing 7.62mm, Pitch 2.54mm, Body 9.6x6.4mm)
pins: 1 GND (power) "Ground", 2 IN (power) "Input voltage", 3 IN (power) "Input voltage", 4 EN (in) "Enable input. Logic high turns on power switch.", 5 ~{OC} (oc) "Overcurrent. Logic output active low", 6 OUT (power) "Power-switch output", 7 OUT (power) "Power-switch output", 8 OUT (power) "Power-switch output"

## TPS2031PE4
designator U?
0.66 A, 2.7 to 5.5 V Single Hot-Swap IC Hi-Side MOSFET, Fault Report, Act-High Enable, 33 mOhms rDS(On), -40 to 85 degC, 8-pin PDIP (P), Pb-Free (RoHS); Manufacturer: Texas Instruments; PartNumber: TPS2031PE4; Continuous Current(Max)(A): 0.6; Current Limit(A): 0.9; Enable: Active High; Number of Switches: 1; Rating: Catalog; rDS(on) per FET(Typ)(mOhms): 33; Vin(Max)(V): 5.5; Vin(Min)(V): 2.7; DatasheetVersion: SLVS190C; PackageVersion: revE, Apr-2010; PackageReference: P8; PackageDescription: 8-Pin Plastic Dual-In-Line Package, Row Spacing 7.62 mm, Pitch 2.54 mm; Supplier 1: Digi-Key; Supplier Part Number 1: TPS2031PE4-ND; Supplier 2: Newark; Supplier Part Number 2: 24K5810; Supplier 3: Mouser; Supplier Part Number 3: 595-TPS2031PE4; Eco-Plan: Pb-Free (RoHS); Mounting Technology: Through Hole; Code_JEDEC: MS-001-BA; ComponentLink1Description: Datasheet; ComponentLink1URL: http://www.ti.com/general/docs/lit/getliterature.tsp?genericPartNumber=TPS2031&fileType=pdf
footprint P8 (DIP, 8-Leads, Row Spacing 7.62mm, Pitch 2.54mm, Body 9.6x6.4mm)
pins: 1 GND (power) "Ground", 2 IN (power) "Input voltage", 3 IN (power) "Input voltage", 4 EN (in) "Enable input. Logic high turns on power switch.", 5 ~{OC} (oc) "Overcurrent. Logic output active low", 6 OUT (power) "Power-switch output", 7 OUT (power) "Power-switch output", 8 OUT (power) "Power-switch output"

## TPS2032D
designator U?
1.1 A, 2.7 to 5.5 V Single Hot-Swap IC High-Side MOSFET, Fault Report, Act-High Enable, 33 mOhms rDS(On), -40 to 85 degC, 8-pin SOIC (D), Green (RoHS & no Sb/Br); Manufacturer: Texas Instruments; PartNumber: TPS2032D; Continuous Current(Max)(A): 1; Current Limit(A): 1.5; Enable: Active High; Rating: Catalog; rDS(on) per FET(Typ)(mOhms): 33; Vin(Max)(V): 5.5; Vin(Min)(V): 2.7; DatasheetVersion: SLVS190C; PackageVersion: revM, Jun-2011; PackageReference: D8; PackageDescription: 8-Pin Plastic Small Outline Integrated Circuit, 4.9 x 3.9 mm, Pitch 1.27 mm Pitch; Supplier 1: Digi-Key; Supplier Part Number 1: 296-2567-5-ND; Supplier 2: Newark; Supplier Part Number 2: 35K1305; Supplier 3: Mouser; Supplier Part Number 3: 595-TPS2032D; Eco-Plan: Green (RoHS & no Sb/Br); Number of Switches: 1; Mounting Technology: Surface Mount; Code_JEDEC: MS-012AA; ComponentLink1Description: Datasheet; ComponentLink1URL: http://www.ti.com/general/docs/lit/getliterature.tsp?genericPartNumber=TPS2032&fileType=pdf
footprint D8_N (SOIC, 8-Leads, Body 4.9x3.9mm, Pitch 1.27mm, IPC Medium Density)
footprint D8_L (SOIC, 8-Leads, Body 4.9x3.9mm, Pitch 1.27mm, IPC High Density)
footprint D8_M (SOIC, 8-Leads, Body 4.9x3.9mm, Pitch 1.27mm, IPC Low Density)
pins: 1 GND (power) "Ground", 2 IN (power) "Input voltage", 3 IN (power) "Input voltage", 4 EN (in) "Enable input. Logic high turns on power switch", 5 ~{OC} (oc) "Overcurrent. Logic output active low", 6 OUT (power) "Power-switch output", 7 OUT (power) "Power-switch output", 8 OUT (power) "Power-switch output"

## TPS2032DG4
designator U?
1.1 A, 2.7 to 5.5 V Single Hot-Swap IC High-Side MOSFET, Fault Report, Act-High Enable, 33 mOhms rDS(On), -40 to 85 degC, 8-pin SOIC (D), Green (RoHS & no Sb/Br); Manufacturer: Texas Instruments; PartNumber: TPS2032DG4; Continuous Current(Max)(A): 1; Current Limit(A): 1.5; Enable: Active High; Rating: Catalog; rDS(on) per FET(Typ)(mOhms): 33; Vin(Max)(V): 5.5; Vin(Min)(V): 2.7; DatasheetVersion: SLVS190C; PackageVersion: revM, Jun-2011; PackageReference: D8; PackageDescription: 8-Pin Plastic Small Outline Integrated Circuit, 4.9 x 3.9 mm, Pitch 1.27 mm Pitch; Supplier 1: Digi-Key; Supplier Part Number 1: TPS2032DG4-ND; Supplier 2: Newark; Supplier Part Number 2: 61K1867; Supplier 3: Mouser; Supplier Part Number 3: 595-TPS2032DG4; Eco-Plan: Green (RoHS & no Sb/Br); Number of Switches: 1; Mounting Technology: Surface Mount; Code_JEDEC: MS-012AA; ComponentLink1Description: Datasheet; ComponentLink1URL: http://www.ti.com/general/docs/lit/getliterature.tsp?genericPartNumber=TPS2032&fileType=pdf
footprint D8_N (SOIC, 8-Leads, Body 4.9x3.9mm, Pitch 1.27mm, IPC Medium Density)
footprint D8_L (SOIC, 8-Leads, Body 4.9x3.9mm, Pitch 1.27mm, IPC High Density)
footprint D8_M (SOIC, 8-Leads, Body 4.9x3.9mm, Pitch 1.27mm, IPC Low Density)
pins: 1 GND (power) "Ground", 2 IN (power) "Input voltage", 3 IN (power) "Input voltage", 4 EN (in) "Enable input. Logic high turns on power switch", 5 ~{OC} (oc) "Overcurrent. Logic output active low", 6 OUT (power) "Power-switch output", 7 OUT (power) "Power-switch output", 8 OUT (power) "Power-switch output"

## TPS2032DR
designator U?
1.1 A, 2.7 to 5.5 V Single Hot-Swap IC High-Side MOSFET, Fault Report, Act-High Enable, 33 mOhms rDS(On), -40 to 85 degC, 8-pin SOIC (D), Green (RoHS & no Sb/Br); Manufacturer: Texas Instruments; PartNumber: TPS2032DR; Continuous Current(Max)(A): 1; Current Limit(A): 1.5; Enable: Active High; Rating: Catalog; rDS(on) per FET(Typ)(mOhms): 33; Vin(Max)(V): 5.5; Vin(Min)(V): 2.7; DatasheetVersion: SLVS190C; PackageVersion: revM, Jun-2011; PackageReference: D8; PackageDescription: 8-Pin Plastic Small Outline Integrated Circuit, 4.9 x 3.9 mm, Pitch 1.27 mm Pitch; Supplier 1: Digi-Key; Supplier Part Number 1: TPS2032DR-ND; Supplier 2: Newark; Supplier Part Number 2: 76C9966; Supplier 3: Mouser; Supplier Part Number 3: 595-TPS2032DR; Eco-Plan: Green (RoHS & no Sb/Br); Number of Switches: 1; Mounting Technology: Surface Mount; Code_JEDEC: MS-012AA; ComponentLink1Description: Datasheet; ComponentLink1URL: http://www.ti.com/general/docs/lit/getliterature.tsp?genericPartNumber=TPS2032&fileType=pdf
footprint D8_N (SOIC, 8-Leads, Body 4.9x3.9mm, Pitch 1.27mm, IPC Medium Density)
footprint D8_L (SOIC, 8-Leads, Body 4.9x3.9mm, Pitch 1.27mm, IPC High Density)
footprint D8_M (SOIC, 8-Leads, Body 4.9x3.9mm, Pitch 1.27mm, IPC Low Density)
pins: 1 GND (power) "Ground", 2 IN (power) "Input voltage", 3 IN (power) "Input voltage", 4 EN (in) "Enable input. Logic high turns on power switch", 5 ~{OC} (oc) "Overcurrent. Logic output active low", 6 OUT (power) "Power-switch output", 7 OUT (power) "Power-switch output", 8 OUT (power) "Power-switch output"

## TPS2032DRG4
designator U?
1.1 A, 2.7 to 5.5 V Single Hot-Swap IC High-Side MOSFET, Fault Report, Act-High Enable, 33 mOhms rDS(On), -40 to 85 degC, 8-pin SOIC (D), Green (RoHS & no Sb/Br); Manufacturer: Texas Instruments; PartNumber: TPS2032DRG4; Continuous Current(Max)(A): 1; Current Limit(A): 1.5; Enable: Active High; Rating: Catalog; rDS(on) per FET(Typ)(mOhms): 33; Vin(Max)(V): 5.5; Vin(Min)(V): 2.7; DatasheetVersion: SLVS190C; PackageVersion: revM, Jun-2011; PackageReference: D8; PackageDescription: 8-Pin Plastic Small Outline Integrated Circuit, 4.9 x 3.9 mm, Pitch 1.27 mm Pitch; Supplier 1: Digi-Key; Supplier Part Number 1: TPS2032DRG4-ND; Supplier 2: Newark; Supplier Part Number 2: 58K6892; Supplier 3: Mouser; Supplier Part Number 3: 595-TPS2032DRG4; Eco-Plan: Green (RoHS & no Sb/Br); Number of Switches: 1; Mounting Technology: Surface Mount; Code_JEDEC: MS-012AA; ComponentLink1Description: Datasheet; ComponentLink1URL: http://www.ti.com/general/docs/lit/getliterature.tsp?genericPartNumber=TPS2032&fileType=pdf
footprint D8_N (SOIC, 8-Leads, Body 4.9x3.9mm, Pitch 1.27mm, IPC Medium Density)
footprint D8_L (SOIC, 8-Leads, Body 4.9x3.9mm, Pitch 1.27mm, IPC High Density)
footprint D8_M (SOIC, 8-Leads, Body 4.9x3.9mm, Pitch 1.27mm, IPC Low Density)
pins: 1 GND (power) "Ground", 2 IN (power) "Input voltage", 3 IN (power) "Input voltage", 4 EN (in) "Enable input. Logic high turns on power switch", 5 ~{OC} (oc) "Overcurrent. Logic output active low", 6 OUT (power) "Power-switch output", 7 OUT (power) "Power-switch output", 8 OUT (power) "Power-switch output"